# Altium schematic symbol library SCH - OPAMP - TI LMH6639.SCHLIB: 1 symbol
Pins are listed as number, name and electrical type; pins without a type are passive.

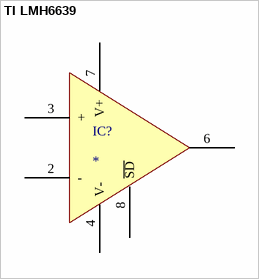
[diagram p0: symbol TI LMH6639]

## TI LMH6639
designator IC?
pins: 2 -, 3 +, 4 V-, 6 OUT, 7 V+, 8 ~{SD}